# Altium footprint library ICM-20649.PcbLib: 3 footprints
Each footprint in its own frame and in the unit in brackets; x right, y up, seen from the top. Pads: shape width x height; smd on the part's side, far side on the other; paste and mask are expansions set on the pad; w line width, h text height; cw(c..) or ccw(c..) is an arc to the next point about the centre after c.
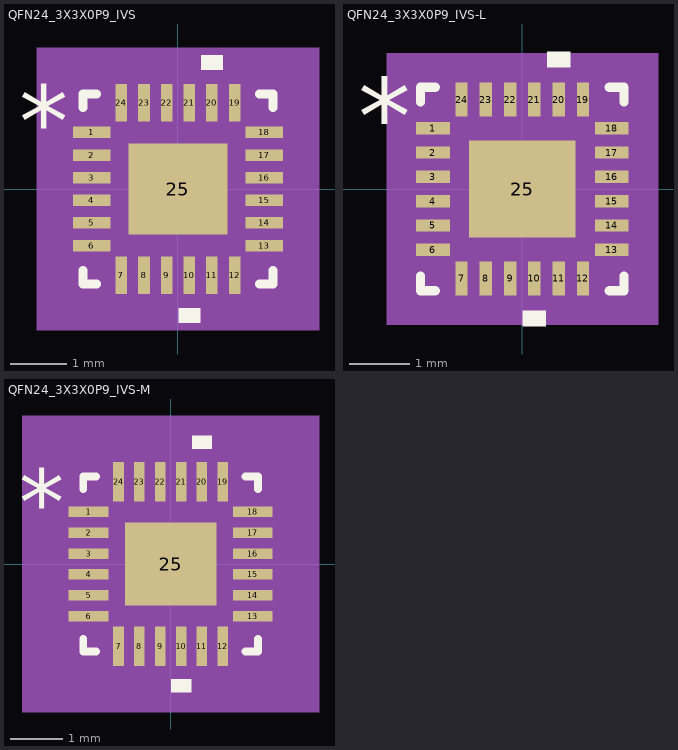
[diagram p0: the footprints below, top view; thin cyan lines are the x and y axes]

## QFN24_3X3X0P9_IVS [mil]
pads (25):
  rect 26x8 smd paste+0 mask+0: 1(-60,39.37) 2(-60,23.62) 3(-60,7.87) 4(-60,-7.87) 5(-60,-23.62) 6(-60,-39.37) 13(60,-39.37) 14(60,-23.62) 15(60,-7.87) 16(60,7.87) 17(60,23.62) 18(60,39.37)
  rect 8x26 smd paste+0 mask+0: 7(-39.37,-60) 8(-23.62,-60) 9(-7.87,-60) 10(7.87,-60) 11(23.62,-60) 12(39.37,-60) 19(39.37,60) 20(23.62,60) 21(7.87,60) 22(-7.87,60) 23(-23.62,60) 24(-39.37,60)
  rect 69x63 smd paste+0 mask+0: 25(0,0)
Top Overlay:
  region: 31.12,83 16.12,83 16.12,93 31.12,93
  region: 15.37,-83 0.37,-83 0.37,-93 15.37,-93
  lines w6: -66,-56.47 -66,-66 -56.47,-66 ; -66,56.47 -66,66 -56.47,66 ; 56.47,-66 66,-66 66,-56.47 ; 56.47,66 66,66 66,56.47
  text "*" at -110.5,22.24 h50
Mechanical 5:
  region: 98,-98 -98,-98 -98,98 98,98
Mechanical 13:
  lines w1: -61,11 -11,61 ; -61,-61 -61,61 61,61 61,-61 -61,-61 ; -61,-44.37 -61,-34.37 -61,-44.37 ; -61,-28.62 -61,-18.62 -61,-28.62 ; -61,-12.87 -61,-2.87 -61,-12.87 ; -61,2.87 -61,12.87 -61,2.87 ; -61,18.62 -61,28.62 -61,18.62 ; -61,34.37 -61,44.37 -61,34.37 ; -44.37,-61 -34.37,-61 -44.37,-61 ; -44.37,61 -34.37,61 -44.37,61 ; -28.62,-61 -18.62,-61 -28.62,-61 ; -28.62,61 -18.62,61 -28.62,61 ; -12.87,-61 -2.87,-61 -12.87,-61 ; -12.87,61 -2.87,61 -12.87,61 ; 2.87,-61 12.87,-61 2.87,-61 ; 2.87,61 12.87,61 2.87,61 ; 18.62,-61 28.62,-61 18.62,-61 ; 18.62,61 28.62,61 18.62,61 ; 34.37,-61 44.37,-61 34.37,-61 ; 34.37,61 44.37,61 34.37,61 ; 61,-44.37 61,-34.37 61,-44.37 ; 61,-28.62 61,-18.62 61,-28.62 ; 61,-12.87 61,-2.87 61,-12.87 ; 61,2.87 61,12.87 61,2.87 ; 61,18.62 61,28.62 61,18.62 ; 61,34.37 61,44.37 61,34.37
  text "*" at -59.5,22.24 h50
Mechanical 15:
  region: -53.37,-71 -71,-71 -71,-53.37 -83,-53.37 -83,53.37 -71,53.37 -71,71 -53.37,71 -53.37,83 53.37,83 53.37,71 71,71 71,53.37 83,53.37 83,-53.37 71,-53.37 71,-71 53.37,-71 53.37,-83 -53.37,-83
  lines w6: -83,-53.37 -83,53.37 -71,53.37 -71,71 -53.37,71 -53.37,83 53.37,83 53.37,71 71,71 71,53.37 83,53.37 83,-53.37 71,-53.37 71,-71 53.37,-71 53.37,-83 -53.37,-83 -53.37,-71 -71,-71 -71,-53.37 -83,-53.37
3D body "QFN24_3X3X0P9_IVS.step": height 37.09, standoff 0, extent -60.98,-60.98 60.98,60.98

## QFN24_3X3X0P9_IVS-L [mil]
pads (25):
  rect 22x8 smd paste+0 mask+0: 1(-58,39.37) 2(-58,23.62) 3(-58,7.87) 4(-58,-7.87) 5(-58,-23.62) 6(-58,-39.37) 13(58,-39.37) 14(58,-23.62) 15(58,-7.87) 16(58,7.87) 17(58,23.62) 18(58,39.37)
  rect 8x22 smd paste+0 mask+0: 7(-39.37,-58) 8(-23.62,-58) 9(-7.87,-58) 10(7.87,-58) 11(23.62,-58) 12(39.37,-58) 19(39.37,58) 20(23.62,58) 21(7.87,58) 22(-7.87,58) 23(-23.62,58) 24(-39.37,58)
  rect 69x63 smd paste+0 mask+0: 25(0,0)
Top Overlay:
  region: 15.37,-79 0.37,-79 0.37,-89 15.37,-89
  region: 31.12,79 16.12,79 16.12,89 31.12,89
  lines w6: -66,-56.47 -66,-66 -56.47,-66 ; -66,56.47 -66,66 -56.47,66 ; 56.47,-66 66,-66 66,-56.47 ; 56.47,66 66,66 66,56.47
  text "*" at -106.5,22.24 h50
Mechanical 5:
  region: 88,-88 -88,-88 -88,88 88,88
Mechanical 13:
  lines w1: -61,11 -11,61 ; -61,-61 61,-61 ; -61,-61 -61,61 ; -61,-61 -61,-61 ; -61,-44.37 -61,-34.37 ; -61,-44.37 -61,-34.37 ; -61,-44.37 -61,-44.37 ; -61,-34.37 -61,-34.37 ; -61,-28.62 -61,-18.62 ; -61,-28.62 -61,-18.62 ; -61,-28.62 -61,-28.62 ; -61,-18.62 -61,-18.62 ; -61,-12.87 -61,-2.87 ; -61,-12.87 -61,-2.87 ; -61,-12.87 -61,-12.87 ; -61,-2.87 -61,-2.87 ; -61,2.87 -61,12.87 ; -61,2.87 -61,12.87 ; -61,2.87 -61,2.87 ; -61,12.87 -61,12.87 ; -61,18.62 -61,28.62 ; -61,18.62 -61,28.62 ; -61,18.62 -61,18.62 ; -61,28.62 -61,28.62 ; -61,34.37 -61,44.37 ; -61,34.37 -61,44.37 ; -61,34.37 -61,34.37 ; -61,44.37 -61,44.37 ; -61,61 61,61 ; -61,61 -61,61 ; -44.37,-61 -34.37,-61 ; -44.37,-61 -44.37,-61 ; -44.37,-61 -34.37,-61 ; -44.37,61 -34.37,61 ; -44.37,61 -34.37,61 ; -44.37,61 -44.37,61 ; -34.37,-61 -34.37,-61 ; -34.37,61 -34.37,61 ; -28.62,-61 -18.62,-61 ; -28.62,-61 -28.62,-61 ; -28.62,-61 -18.62,-61 ; -28.62,61 -18.62,61 ; -28.62,61 -18.62,61 ; -28.62,61 -28.62,61 ; -18.62,-61 -18.62,-61 ; -18.62,61 -18.62,61 ; -12.87,-61 -2.87,-61 ; -12.87,-61 -12.87,-61 ; -12.87,-61 -2.87,-61 ; -12.87,61 -2.87,61 ; -12.87,61 -2.87,61 ; -12.87,61 -12.87,61 ; -2.87,-61 -2.87,-61 ; -2.87,61 -2.87,61 ; 2.87,-61 12.87,-61 ; 2.87,-61 2.87,-61 ; 2.87,-61 12.87,-61 ; 2.87,61 12.87,61 ; 2.87,61 12.87,61 ; 2.87,61 2.87,61 ; 12.87,-61 12.87,-61 ; 12.87,61 12.87,61 ; 18.62,-61 28.62,-61 ; 18.62,-61 18.62,-61 ; 18.62,-61 28.62,-61 ; 18.62,61 28.62,61 ; 18.62,61 28.62,61 ; 18.62,61 18.62,61 ; 28.62,-61 28.62,-61 ; 28.62,61 28.62,61 ; 34.37,-61 44.37,-61 ; 34.37,-61 34.37,-61 ; 34.37,-61 44.37,-61 ; 34.37,61 44.37,61 ; 34.37,61 44.37,61 ; 34.37,61 34.37,61 ; 44.37,-61 44.37,-61 ; 44.37,61 44.37,61 ; 61,-61 61,-61 ; 61,-61 61,61 ; 61,-44.37 61,-34.37 ; 61,-44.37 61,-44.37 ; 61,-44.37 61,-34.37 ; 61,-34.37 61,-34.37 ; 61,-28.62 61,-18.62 ; 61,-28.62 61,-28.62 ; 61,-28.62 61,-18.62 ; 61,-18.62 61,-18.62 ; 61,-12.87 61,-2.87 ; 61,-12.87 61,-12.87 ; 61,-12.87 61,-2.87 ; 61,-2.87 61,-2.87 ; 61,2.87 61,12.87 ; 61,2.87 61,2.87 ; 61,2.87 61,12.87 ; 61,12.87 61,12.87 ; 61,18.62 61,28.62 ; 61,18.62 61,18.62 ; 61,18.62 61,28.62 ; 61,28.62 61,28.62 ; 61,34.37 61,44.37 ; 61,34.37 61,34.37 ; 61,34.37 61,44.37 ; 61,44.37 61,44.37 ; 61,61 61,61
  text "*" at -59.5,22.24 h50
Mechanical 15:
  region: -47.37,-65 -65,-65 -65,-47.37 -73,-47.37 -73,47.37 -65,47.37 -65,65 -47.37,65 -47.37,73 47.37,73 47.37,65 65,65 65,47.37 73,47.37 73,-47.37 65,-47.37 65,-65 47.37,-65 47.37,-73 -47.37,-73
  lines w6: -73,-47.37 -65,-47.37 -65,-65 -47.37,-65 -47.37,-73 47.37,-73 47.37,-65 65,-65 65,-47.37 73,-47.37 73,47.37 65,47.37 65,65 47.37,65 47.37,73 -47.37,73 -47.37,65 -65,65 -65,47.37 -73,47.37 -73,-47.37
3D body "QFN24_3X3X0P9_IVS.step": height 37.09, standoff 0, extent -60.98,-60.98 60.98,60.98

## QFN24_3X3X0P9_IVS-M [mil]
pads (25):
  rect 30x8 smd paste+0 mask+0: 1(-62,39.37) 2(-62,23.62) 3(-62,7.87) 4(-62,-7.87) 5(-62,-23.62) 6(-62,-39.37) 13(62,-39.37) 14(62,-23.62) 15(62,-7.87) 16(62,7.87) 17(62,23.62) 18(62,39.37)
  rect 8x30 smd paste+0 mask+0: 7(-39.37,-62) 8(-23.62,-62) 9(-7.87,-62) 10(7.87,-62) 11(23.62,-62) 12(39.37,-62) 19(39.37,62) 20(23.62,62) 21(7.87,62) 22(-7.87,62) 23(-23.62,62) 24(-39.37,62)
  rect 69x63 smd paste+0 mask+0: 25(0,0)
Top Overlay:
  region: 15.37,-87 0.37,-87 0.37,-97 15.37,-97
  region: 31.12,87 16.12,87 16.12,97 31.12,97
  lines w6: -66,-56.47 -66,-66 -56.47,-66 ; -66,56.47 -66,66 -56.47,66 ; 56.47,-66 66,-66 66,-56.47 ; 56.47,66 66,66 66,56.47
  text "*" at -114.5,22.24 h50
Mechanical 5:
  region: 112,-112 -112,-112 -112,112 112,112
Mechanical 13:
  lines w1: -61,11 -11,61 ; -61,-61 61,-61 ; -61,-61 -61,61 ; -61,-61 -61,-61 ; -61,-44.37 -61,-34.37 ; -61,-44.37 -61,-34.37 ; -61,-44.37 -61,-44.37 ; -61,-34.37 -61,-34.37 ; -61,-28.62 -61,-18.62 ; -61,-28.62 -61,-18.62 ; -61,-28.62 -61,-28.62 ; -61,-18.62 -61,-18.62 ; -61,-12.87 -61,-2.87 ; -61,-12.87 -61,-2.87 ; -61,-12.87 -61,-12.87 ; -61,-2.87 -61,-2.87 ; -61,2.87 -61,12.87 ; -61,2.87 -61,12.87 ; -61,2.87 -61,2.87 ; -61,12.87 -61,12.87 ; -61,18.62 -61,28.62 ; -61,18.62 -61,28.62 ; -61,18.62 -61,18.62 ; -61,28.62 -61,28.62 ; -61,34.37 -61,44.37 ; -61,34.37 -61,44.37 ; -61,34.37 -61,34.37 ; -61,44.37 -61,44.37 ; -61,61 61,61 ; -61,61 -61,61 ; -44.37,-61 -34.37,-61 ; -44.37,-61 -44.37,-61 ; -44.37,-61 -34.37,-61 ; -44.37,61 -34.37,61 ; -44.37,61 -34.37,61 ; -44.37,61 -44.37,61 ; -34.37,-61 -34.37,-61 ; -34.37,61 -34.37,61 ; -28.62,-61 -18.62,-61 ; -28.62,-61 -28.62,-61 ; -28.62,-61 -18.62,-61 ; -28.62,61 -18.62,61 ; -28.62,61 -18.62,61 ; -28.62,61 -28.62,61 ; -18.62,-61 -18.62,-61 ; -18.62,61 -18.62,61 ; -12.87,-61 -2.87,-61 ; -12.87,-61 -12.87,-61 ; -12.87,-61 -2.87,-61 ; -12.87,61 -2.87,61 ; -12.87,61 -2.87,61 ; -12.87,61 -12.87,61 ; -2.87,-61 -2.87,-61 ; -2.87,61 -2.87,61 ; 2.87,-61 12.87,-61 ; 2.87,-61 2.87,-61 ; 2.87,-61 12.87,-61 ; 2.87,61 12.87,61 ; 2.87,61 12.87,61 ; 2.87,61 2.87,61 ; 12.87,-61 12.87,-61 ; 12.87,61 12.87,61 ; 18.62,-61 28.62,-61 ; 18.62,-61 18.62,-61 ; 18.62,-61 28.62,-61 ; 18.62,61 28.62,61 ; 18.62,61 28.62,61 ; 18.62,61 18.62,61 ; 28.62,-61 28.62,-61 ; 28.62,61 28.62,61 ; 34.37,-61 44.37,-61 ; 34.37,-61 34.37,-61 ; 34.37,-61 44.37,-61 ; 34.37,61 44.37,61 ; 34.37,61 44.37,61 ; 34.37,61 34.37,61 ; 44.37,-61 44.37,-61 ; 44.37,61 44.37,61 ; 61,-61 61,-61 ; 61,-61 61,61 ; 61,-44.37 61,-34.37 ; 61,-44.37 61,-44.37 ; 61,-44.37 61,-34.37 ; 61,-34.37 61,-34.37 ; 61,-28.62 61,-18.62 ; 61,-28.62 61,-28.62 ; 61,-28.62 61,-18.62 ; 61,-18.62 61,-18.62 ; 61,-12.87 61,-2.87 ; 61,-12.87 61,-12.87 ; 61,-12.87 61,-2.87 ; 61,-2.87 61,-2.87 ; 61,2.87 61,12.87 ; 61,2.87 61,2.87 ; 61,2.87 61,12.87 ; 61,12.87 61,12.87 ; 61,18.62 61,28.62 ; 61,18.62 61,18.62 ; 61,18.62 61,28.62 ; 61,28.62 61,28.62 ; 61,34.37 61,44.37 ; 61,34.37 61,34.37 ; 61,34.37 61,44.37 ; 61,44.37 61,44.37 ; 61,61 61,61
  text "*" at -59.5,22.24 h50
Mechanical 15:
  region: -63.37,-81 -81,-81 -81,-63.37 -97,-63.37 -97,63.37 -81,63.37 -81,81 -63.37,81 -63.37,97 63.37,97 63.37,81 81,81 81,63.37 97,63.37 97,-63.37 81,-63.37 81,-81 63.37,-81 63.37,-97 -63.37,-97
  lines w6: -97,-63.37 -81,-63.37 -81,-81 -63.37,-81 -63.37,-97 63.37,-97 63.37,-81 81,-81 81,-63.37 97,-63.37 97,63.37 81,63.37 81,81 63.37,81 63.37,97 -63.37,97 -63.37,81 -81,81 -81,63.37 -97,63.37 -97,-63.37
3D body "QFN24_3X3X0P9_IVS.step": height 37.09, standoff 0, extent -60.98,-60.98 60.98,60.98